# EAGLE library part MIC5320 (library bt_regulator)
MIC5320 Dual ULDO Voltage Regulator The MIC5320 is a tiny Dual Ultra Low-Dropout (ULDO(TM)) linear regulator ideally suited for portable electronics. Reference: http://www.micrel.com/_PDF/mic5320.pdf
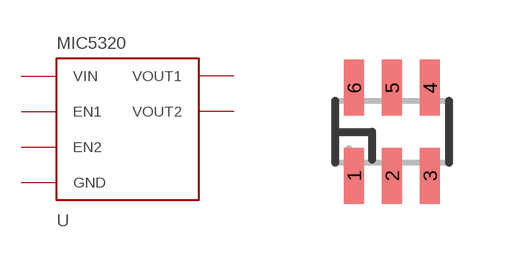
[diagram p0: symbol with the pads of SOT23-6; footprint SOT23-6]

Designator prefix -

## MIC5320  [SOT23-6]
1  EN2  in
2  GND  sup
3  VIN  sup
4  VOUT1  pwr
5  VOUT2  pwr
6  EN1  in

## Footprint SOT23-6 (pad centres in mm)
SOT23-6 package This is the DBV6 package from Texas Instruments. It differs from the one in the Eagle libraries (there are two versions in ref-packages.lbr) in that the pad dimensions are 0.5mm x 1.4mm, as in the TI recommendation. The pin spacing is 0.95mm, and the package body has nominal dimensions 2.9mm long by 1.6mm wide.
smd 0.5 x 1.4: 1 -0.95,-1.1; 2 0,-1.1; 3 0.95,-1.1; 4 0.95,1.1; 5 0,1.1; 6 -0.95,1.1